# Altium integrated library Xilinx XC1700E.IntLib: 48 symbols
Pins are listed as number, name and electrical type; pins without a type are passive.

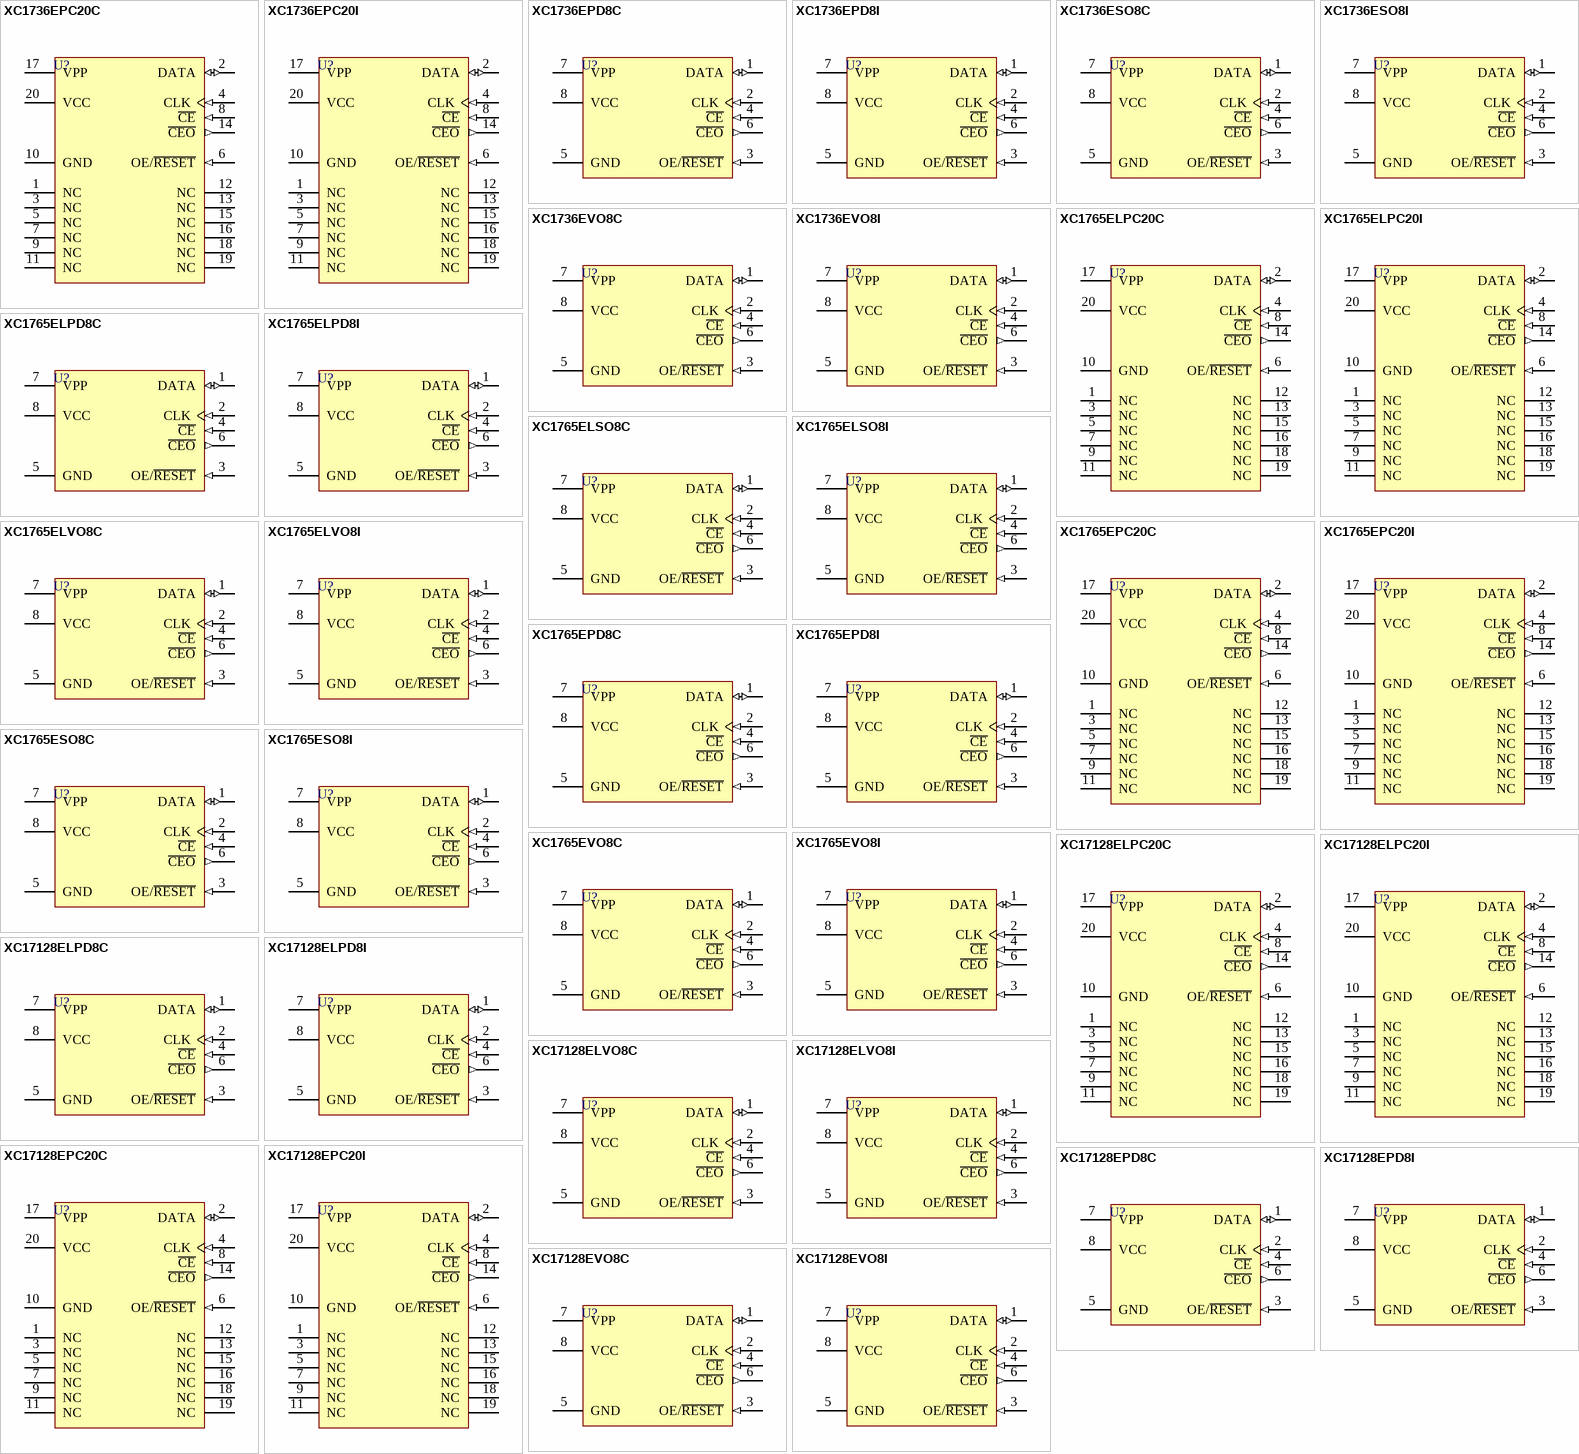
[diagram p0: symbols XC1736EPC20C to XC17128EVO8I]

## XC1736EPC20C
designator U?
XC1700E Series, One-Time Programmable Configuration 5V PROM, 20-Pin PLCC, 36-Kilobit Density, Commercial Grade; PackageDocument: ver1.0, Jun-2000; Published: 17-Dec-2003; DatasheetDocument: ver3.1, Jul-2000; PackageReference: PC20; Publisher: Altium Limited; Code_JEDEC: MS-047
footprint PC20 (20-Pin Plastic Leaded Chip Carrier (PC20))
3D model XC1736E-PC20 (20-Pin Plastic Leaded Chip Carrier (PC20))
pins: 1 NC "No Connection.", 2 DATA (io) "Data Output.", 3 NC "No Connection.", 4 CLK (in) "Clock input for internal address counter.", 5 NC "No Connection.", 6 OE/~{RESET} (in) "Output Enable/Reset.", 7 NC "No Connection.", 8 ~{CE} (in) "Chip Enable Input.", 9 NC "No Connection.", 10 GND (power) "Ground.", 11 NC "No Connection.", 12 NC "No Connection.", 13 NC "No Connection.", 14 ~{CEO} (out) "Chip Enable Output, connects to the CE input of the next PROM in the chain.", 15 NC "No Connection.", 16 NC "No Connection.", 17 VPP (power) "Programming Voltage.  Do not leave Vpp floating!", 18 NC "No Connection.", 19 NC "No Connection.", 20 VCC (power) "Positive Supply."

## XC1736EPC20I
designator U?
XC1700E Series, One-Time Programmable Configuration 5V PROM, 20-Pin PLCC, 36-Kilobit Density, Industrial Grade; PackageDocument: ver1.0, Jun-2000; Published: 17-Dec-2003; DatasheetDocument: ver3.1, Jul-2000; PackageReference: PC20; Publisher: Altium Limited; Code_JEDEC: MS-047
footprint PC20 (20-Pin Plastic Leaded Chip Carrier (PC20))
3D model XC1736E-PC20 (20-Pin Plastic Leaded Chip Carrier (PC20))
pins: 1 NC "No Connection.", 2 DATA (io) "Data Output.", 3 NC "No Connection.", 4 CLK (in) "Clock input for internal address counter.", 5 NC "No Connection.", 6 OE/~{RESET} (in) "Output Enable/Reset.", 7 NC "No Connection.", 8 ~{CE} (in) "Chip Enable Input.", 9 NC "No Connection.", 10 GND (power) "Ground.", 11 NC "No Connection.", 12 NC "No Connection.", 13 NC "No Connection.", 14 ~{CEO} (out) "Chip Enable Output, connects to the CE input of the next PROM in the chain.", 15 NC "No Connection.", 16 NC "No Connection.", 17 VPP (power) "Programming Voltage.  Do not leave Vpp floating!", 18 NC "No Connection.", 19 NC "No Connection.", 20 VCC (power) "Positive Supply."

## XC1736EPD8C
designator U?
XC1700E Series, One-Time Programmable Configuration 5V PROM, 8-Pin PDIP, 36-Kilobit Density, Commercial Grade; PackageDocument: rev1.1, Apr-2001; Published: 17-Dec-2003; DatasheetDocument: ver3.1, Jul-2000; PackageReference: PD8; Publisher: Altium Limited; Code_JEDEC: MS-001-BA
footprint PD8 (8-Pin Plastic DIP (PD8))
pins: 1 DATA (io) "Data Output.", 2 CLK (in) "Clock input for internal address counter.", 3 OE/~{RESET} (in) "Output Enable/Reset.", 4 ~{CE} (in) "Chip Enable Input.", 5 GND (power) "Ground.", 6 ~{CEO} (out) "Chip Enable Output, connects to the CE input of the next PROM in the chain.", 7 VPP (power) "Programming Voltage.  Do not leave Vpp floating!", 8 VCC (power) "Positive Supply."

## XC1736EPD8I
designator U?
XC1700E Series, One-Time Programmable Configuration 5V PROM, 8-Pin PDIP, 36-Kilobit Density, Industrial Grade; PackageDocument: rev1.1, Apr-2001; Published: 17-Dec-2003; DatasheetDocument: ver3.1, Jul-2000; PackageReference: PD8; Publisher: Altium Limited; Code_JEDEC: MS-001-BA
footprint PD8 (8-Pin Plastic DIP (PD8))
pins: 1 DATA (io) "Data Output.", 2 CLK (in) "Clock input for internal address counter.", 3 OE/~{RESET} (in) "Output Enable/Reset.", 4 ~{CE} (in) "Chip Enable Input.", 5 GND (power) "Ground.", 6 ~{CEO} (out) "Chip Enable Output, connects to the CE input of the next PROM in the chain.", 7 VPP (power) "Programming Voltage.  Do not leave Vpp floating!", 8 VCC (power) "Positive Supply."

## XC1736ESO8C
designator U?
XC1700E Series, One-Time Programmable Configuration 5V PROM, 8-Pin SOIC, 36-Kilobit Density, Commercial Grade; PackageDocument: ver1.1, Apr-2001; Published: 17-Dec-2003; DatasheetDocument: ver3.1, Jul-2000; PackageReference: SO8; Publisher: Altium Limited; Code_JEDEC: MS-012
footprint SO8 (8-Lead SOIC (SO8))
pins: 1 DATA (io) "Data Output.", 2 CLK (in) "Clock input for internal address counter.", 3 OE/~{RESET} (in) "Output Enable/Reset.", 4 ~{CE} (in) "Chip Enable Input.", 5 GND (power) "Ground.", 6 ~{CEO} (out) "Chip Enable Output, connects to the CE input of the next PROM in the chain.", 7 VPP (power) "Programming Voltage.  Do not leave Vpp floating!", 8 VCC (power) "Positive Supply."

## XC1736ESO8I
designator U?
XC1700E Series, One-Time Programmable Configuration 5V PROM, 8-Pin SOIC, 36-Kilobit Density, Industrial Grade; PackageDocument: ver1.1, Apr-2001; Published: 17-Dec-2003; DatasheetDocument: ver3.1, Jul-2000; PackageReference: SO8; Publisher: Altium Limited; Code_JEDEC: MS-012
footprint SO8 (8-Lead SOIC (SO8))
pins: 1 DATA (io) "Data Output.", 2 CLK (in) "Clock input for internal address counter.", 3 OE/~{RESET} (in) "Output Enable/Reset.", 4 ~{CE} (in) "Chip Enable Input.", 5 GND (power) "Ground.", 6 ~{CEO} (out) "Chip Enable Output, connects to the CE input of the next PROM in the chain.", 7 VPP (power) "Programming Voltage.  Do not leave Vpp floating!", 8 VCC (power) "Positive Supply."

## XC1736EVO8C
designator U?
XC1700E Series, One-Time Programmable Configuration 5V PROM, 8-Pin TSOP, 36-Kilobit Density, Commercial Grade; PackageDocument: ver1.1, Apr-2001; Published: 17-Dec-2003; DatasheetDocument: ver3.1, Jul-2000; PackageReference: VO8; Publisher: Altium Limited
footprint VO8 (8-Pin Thin Small-Outline Package (VO8))
pins: 1 DATA (io) "Data Output.", 2 CLK (in) "Clock input for internal address counter.", 3 OE/~{RESET} (in) "Output Enable/Reset.", 4 ~{CE} (in) "Chip Enable Input.", 5 GND (power) "Ground.", 6 ~{CEO} (out) "Chip Enable Output, connects to the CE input of the next PROM in the chain.", 7 VPP (power) "Programming Voltage.  Do not leave Vpp floating!", 8 VCC (power) "Positive Supply."

## XC1736EVO8I
designator U?
XC1700E Series, One-Time Programmable Configuration 5V PROM, 8-Pin TSOP, 36-Kilobit Density, Industrial Grade; PackageDocument: ver1.1, Apr-2001; Published: 17-Dec-2003; DatasheetDocument: ver3.1, Jul-2000; PackageReference: VO8; Publisher: Altium Limited
footprint VO8 (8-Pin Thin Small-Outline Package (VO8))
pins: 1 DATA (io) "Data Output.", 2 CLK (in) "Clock input for internal address counter.", 3 OE/~{RESET} (in) "Output Enable/Reset.", 4 ~{CE} (in) "Chip Enable Input.", 5 GND (power) "Ground.", 6 ~{CEO} (out) "Chip Enable Output, connects to the CE input of the next PROM in the chain.", 7 VPP (power) "Programming Voltage.  Do not leave Vpp floating!", 8 VCC (power) "Positive Supply."

## XC1765ELPC20C
designator U?
XC1700EL Series, One-Time Programmable Configuration 3.3V PROM, 20-Pin PLCC, 64-Kilobit Density, Commercial Grade; PackageDocument: ver1.0, Jun-2000; Published: 17-Dec-2003; DatasheetDocument: ver3.1, Jul-2000; PackageReference: PC20; Publisher: Altium Limited; Code_JEDEC: MS-047
footprint PC20 (20-Pin Plastic Leaded Chip Carrier (PC20))
3D model XC1765X-PC20 (20-Pin Plastic Leaded Chip Carrier (PC20))
pins: 1 NC "No Connection.", 2 DATA (io) "Data Output.", 3 NC "No Connection.", 4 CLK (in) "Clock input for internal address counter.", 5 NC "No Connection.", 6 OE/~{RESET} (in) "Output Enable/Reset.", 7 NC "No Connection.", 8 ~{CE} (in) "Chip Enable Input.", 9 NC "No Connection.", 10 GND (power) "Ground.", 11 NC "No Connection.", 12 NC "No Connection.", 13 NC "No Connection.", 14 ~{CEO} (out) "Chip Enable Output, connects to the CE input of the next PROM in the chain.", 15 NC "No Connection.", 16 NC "No Connection.", 17 VPP (power) "Programming Voltage.  Do not leave Vpp floating!", 18 NC "No Connection.", 19 NC "No Connection.", 20 VCC (power) "Positive Supply."

## XC1765ELPC20I
designator U?
XC1700EL Series, One-Time Programmable Configuration 3.3V PROM, 20-Pin PLCC, 64-Kilobit Density, Industrial Grade; PackageDocument: ver1.0, Jun-2000; Published: 17-Dec-2003; DatasheetDocument: ver3.1, Jul-2000; PackageReference: PC20; Publisher: Altium Limited; Code_JEDEC: MS-047
footprint PC20 (20-Pin Plastic Leaded Chip Carrier (PC20))
3D model XC1765X-PC20 (20-Pin Plastic Leaded Chip Carrier (PC20))
pins: 1 NC "No Connection.", 2 DATA (io) "Data Output.", 3 NC "No Connection.", 4 CLK (in) "Clock input for internal address counter.", 5 NC "No Connection.", 6 OE/~{RESET} (in) "Output Enable/Reset.", 7 NC "No Connection.", 8 ~{CE} (in) "Chip Enable Input.", 9 NC "No Connection.", 10 GND (power) "Ground.", 11 NC "No Connection.", 12 NC "No Connection.", 13 NC "No Connection.", 14 ~{CEO} (out) "Chip Enable Output, connects to the CE input of the next PROM in the chain.", 15 NC "No Connection.", 16 NC "No Connection.", 17 VPP (power) "Programming Voltage.  Do not leave Vpp floating!", 18 NC "No Connection.", 19 NC "No Connection.", 20 VCC (power) "Positive Supply."

## XC1765ELPD8C
designator U?
XC1700EL Series, One-Time Programmable Configuration 3.3V PROM, 8-Pin PDIP, 64-Kilobit Density, Commercial Grade; PackageDocument: rev1.1, Apr-2001; Published: 17-Dec-2003; DatasheetDocument: ver3.1, Jul-2000; PackageReference: PD8; Publisher: Altium Limited; Code_JEDEC: MS-001-BA
footprint PD8 (8-Pin Plastic DIP (PD8))
pins: 1 DATA (io) "Data Output.", 2 CLK (in) "Clock input for internal address counter.", 3 OE/~{RESET} (in) "Output Enable/Reset.", 4 ~{CE} (in) "Chip Enable Input.", 5 GND (power) "Ground.", 6 ~{CEO} (out) "Chip Enable Output, connects to the CE input of the next PROM in the chain.", 7 VPP (power) "Programming Voltage.  Do not leave Vpp floating!", 8 VCC (power) "Positive Supply."

## XC1765ELPD8I
designator U?
XC1700EL Series, One-Time Programmable Configuration 3.3V PROM, 8-Pin PDIP, 64-Kilobit Density, Industrial Grade; PackageDocument: rev1.1, Apr-2001; Published: 17-Dec-2003; DatasheetDocument: ver3.1, Jul-2000; PackageReference: PD8; Publisher: Altium Limited; Code_JEDEC: MS-001-BA
footprint PD8 (8-Pin Plastic DIP (PD8))
pins: 1 DATA (io) "Data Output.", 2 CLK (in) "Clock input for internal address counter.", 3 OE/~{RESET} (in) "Output Enable/Reset.", 4 ~{CE} (in) "Chip Enable Input.", 5 GND (power) "Ground.", 6 ~{CEO} (out) "Chip Enable Output, connects to the CE input of the next PROM in the chain.", 7 VPP (power) "Programming Voltage.  Do not leave Vpp floating!", 8 VCC (power) "Positive Supply."

## XC1765ELSO8C
designator U?
XC1700EL Series, One-Time Programmable Configuration 3.3V PROM, 8-Pin SOIC, 64-Kilobit Density, Commercial Grade; PackageDocument: ver1.1, Apr-2001; Published: 17-Dec-2003; DatasheetDocument: ver3.1, Jul-2000; PackageReference: SO8; Publisher: Altium Limited; Code_JEDEC: MS-012
footprint SO8 (8-Lead SOIC (SO8))
pins: 1 DATA (io) "Data Output.", 2 CLK (in) "Clock input for internal address counter.", 3 OE/~{RESET} (in) "Output Enable/Reset.", 4 ~{CE} (in) "Chip Enable Input.", 5 GND (power) "Ground.", 6 ~{CEO} (out) "Chip Enable Output, connects to the CE input of the next PROM in the chain.", 7 VPP (power) "Programming Voltage.  Do not leave Vpp floating!", 8 VCC (power) "Positive Supply."

## XC1765ELSO8I
designator U?
XC1700EL Series, One-Time Programmable Configuration 3.3V PROM, 8-Pin SOIC, 64-Kilobit Density, Industrial Grade; PackageDocument: ver1.1, Apr-2001; Published: 17-Dec-2003; DatasheetDocument: ver3.1, Jul-2000; PackageReference: SO8; Publisher: Altium Limited; Code_JEDEC: MS-012
footprint SO8 (8-Lead SOIC (SO8))
pins: 1 DATA (io) "Data Output.", 2 CLK (in) "Clock input for internal address counter.", 3 OE/~{RESET} (in) "Output Enable/Reset.", 4 ~{CE} (in) "Chip Enable Input.", 5 GND (power) "Ground.", 6 ~{CEO} (out) "Chip Enable Output, connects to the CE input of the next PROM in the chain.", 7 VPP (power) "Programming Voltage.  Do not leave Vpp floating!", 8 VCC (power) "Positive Supply."

## XC1765ELVO8C
designator U?
XC1700EL Series, One-Time Programmable Configuration 3.3V PROM, 8-Pin TSOP, 64-Kilobit Density, Commercial Grade; PackageDocument: ver1.1, Apr-2001; Published: 17-Dec-2003; DatasheetDocument: ver3.1, Jul-2000; PackageReference: VO8; Publisher: Altium Limited
footprint VO8 (8-Pin Thin Small-Outline Package (VO8))
pins: 1 DATA (io) "Data Output.", 2 CLK (in) "Clock input for internal address counter.", 3 OE/~{RESET} (in) "Output Enable/Reset.", 4 ~{CE} (in) "Chip Enable Input.", 5 GND (power) "Ground.", 6 ~{CEO} (out) "Chip Enable Output, connects to the CE input of the next PROM in the chain.", 7 VPP (power) "Programming Voltage.  Do not leave Vpp floating!", 8 VCC (power) "Positive Supply."

## XC1765ELVO8I
designator U?
XC1700EL Series, One-Time Programmable Configuration 3.3V PROM, 8-Pin TSOP, 64-Kilobit Density, Industrial Grade; PackageDocument: ver1.1, Apr-2001; Published: 17-Dec-2003; DatasheetDocument: ver3.1, Jul-2000; PackageReference: VO8; Publisher: Altium Limited
footprint VO8 (8-Pin Thin Small-Outline Package (VO8))
pins: 1 DATA (io) "Data Output.", 2 CLK (in) "Clock input for internal address counter.", 3 OE/~{RESET} (in) "Output Enable/Reset.", 4 ~{CE} (in) "Chip Enable Input.", 5 GND (power) "Ground.", 6 ~{CEO} (out) "Chip Enable Output, connects to the CE input of the next PROM in the chain.", 7 VPP (power) "Programming Voltage.  Do not leave Vpp floating!", 8 VCC (power) "Positive Supply."

## XC1765EPC20C
designator U?
XC1700E Series, One-Time Programmable Configuration 5V PROM, 20-Pin PLCC, 64-Kilobit Density, Commercial Grade; PackageDocument: ver1.0, Jun-2000; Published: 17-Dec-2003; DatasheetDocument: ver3.1, Jul-2000; PackageReference: PC20; Publisher: Altium Limited; Code_JEDEC: MS-047
footprint PC20 (20-Pin Plastic Leaded Chip Carrier (PC20))
3D model XC1765E-PC20 (20-Pin Plastic Leaded Chip Carrier (PC20))
pins: 1 NC "No Connection.", 2 DATA (io) "Data Output.", 3 NC "No Connection.", 4 CLK (in) "Clock input for internal address counter.", 5 NC "No Connection.", 6 OE/~{RESET} (in) "Output Enable/Reset.", 7 NC "No Connection.", 8 ~{CE} (in) "Chip Enable Input.", 9 NC "No Connection.", 10 GND (power) "Ground.", 11 NC "No Connection.", 12 NC "No Connection.", 13 NC "No Connection.", 14 ~{CEO} (out) "Chip Enable Output, connects to the CE input of the next PROM in the chain.", 15 NC "No Connection.", 16 NC "No Connection.", 17 VPP (power) "Programming Voltage.  Do not leave Vpp floating!", 18 NC "No Connection.", 19 NC "No Connection.", 20 VCC (power) "Positive Supply."

## XC1765EPC20I
designator U?
XC1700E Series, One-Time Programmable Configuration 5V PROM, 20-Pin PLCC, 64-Kilobit Density, Industrial Grade; PackageDocument: ver1.0, Jun-2000; Published: 17-Dec-2003; DatasheetDocument: ver3.1, Jul-2000; PackageReference: PC20; Publisher: Altium Limited; Code_JEDEC: MS-047
footprint PC20 (20-Pin Plastic Leaded Chip Carrier (PC20))
3D model XC1765E-PC20 (20-Pin Plastic Leaded Chip Carrier (PC20))
pins: 1 NC "No Connection.", 2 DATA (io) "Data Output.", 3 NC "No Connection.", 4 CLK (in) "Clock input for internal address counter.", 5 NC "No Connection.", 6 OE/~{RESET} (in) "Output Enable/Reset.", 7 NC "No Connection.", 8 ~{CE} (in) "Chip Enable Input.", 9 NC "No Connection.", 10 GND (power) "Ground.", 11 NC "No Connection.", 12 NC "No Connection.", 13 NC "No Connection.", 14 ~{CEO} (out) "Chip Enable Output, connects to the CE input of the next PROM in the chain.", 15 NC "No Connection.", 16 NC "No Connection.", 17 VPP (power) "Programming Voltage.  Do not leave Vpp floating!", 18 NC "No Connection.", 19 NC "No Connection.", 20 VCC (power) "Positive Supply."

## XC1765EPD8C
designator U?
XC1700E Series, One-Time Programmable Configuration 5V PROM, 8-Pin PDIP, 64-Kilobit Density, Commercial Grade; PackageDocument: rev1.1, Apr-2001; Published: 17-Dec-2003; DatasheetDocument: ver3.1, Jul-2000; PackageReference: PD8; Publisher: Altium Limited; Code_JEDEC: MS-001-BA
footprint PD8 (8-Pin Plastic DIP (PD8))
pins: 1 DATA (io) "Data Output.", 2 CLK (in) "Clock input for internal address counter.", 3 OE/~{RESET} (in) "Output Enable/Reset.", 4 ~{CE} (in) "Chip Enable Input.", 5 GND (power) "Ground.", 6 ~{CEO} (out) "Chip Enable Output, connects to the CE input of the next PROM in the chain.", 7 VPP (power) "Programming Voltage.  Do not leave Vpp floating!", 8 VCC (power) "Positive Supply."

## XC1765EPD8I
designator U?
XC1700E Series, One-Time Programmable Configuration 5V PROM, 8-Pin PDIP, 64-Kilobit Density, Industrial Grade; PackageDocument: rev1.1, Apr-2001; Published: 17-Dec-2003; DatasheetDocument: ver3.1, Jul-2000; PackageReference: PD8; Publisher: Altium Limited; Code_JEDEC: MS-001-BA
footprint PD8 (8-Pin Plastic DIP (PD8))
pins: 1 DATA (io) "Data Output.", 2 CLK (in) "Clock input for internal address counter.", 3 OE/~{RESET} (in) "Output Enable/Reset.", 4 ~{CE} (in) "Chip Enable Input.", 5 GND (power) "Ground.", 6 ~{CEO} (out) "Chip Enable Output, connects to the CE input of the next PROM in the chain.", 7 VPP (power) "Programming Voltage.  Do not leave Vpp floating!", 8 VCC (power) "Positive Supply."

## XC1765ESO8C
designator U?
XC1700E Series, One-Time Programmable Configuration 5V PROM, 8-Pin SOIC, 64-Kilobit Density, Commercial Grade; PackageDocument: ver1.1, Apr-2001; Published: 17-Dec-2003; DatasheetDocument: ver3.1, Jul-2000; PackageReference: SO8; Publisher: Altium Limited; Code_JEDEC: MS-012
footprint SO8 (8-Lead SOIC (SO8))
pins: 1 DATA (io) "Data Output.", 2 CLK (in) "Clock input for internal address counter.", 3 OE/~{RESET} (in) "Output Enable/Reset.", 4 ~{CE} (in) "Chip Enable Input.", 5 GND (power) "Ground.", 6 ~{CEO} (out) "Chip Enable Output, connects to the CE input of the next PROM in the chain.", 7 VPP (power) "Programming Voltage.  Do not leave Vpp floating!", 8 VCC (power) "Positive Supply."

## XC1765ESO8I
designator U?
XC1700E Series, One-Time Programmable Configuration 5V PROM, 8-Pin SOIC, 64-Kilobit Density, Industrial Grade; PackageDocument: ver1.1, Apr-2001; Published: 17-Dec-2003; DatasheetDocument: ver3.1, Jul-2000; PackageReference: SO8; Publisher: Altium Limited; Code_JEDEC: MS-012
footprint SO8 (8-Lead SOIC (SO8))
pins: 1 DATA (io) "Data Output.", 2 CLK (in) "Clock input for internal address counter.", 3 OE/~{RESET} (in) "Output Enable/Reset.", 4 ~{CE} (in) "Chip Enable Input.", 5 GND (power) "Ground.", 6 ~{CEO} (out) "Chip Enable Output, connects to the CE input of the next PROM in the chain.", 7 VPP (power) "Programming Voltage.  Do not leave Vpp floating!", 8 VCC (power) "Positive Supply."

## XC1765EVO8C
designator U?
XC1700E Series, One-Time Programmable Configuration 5V PROM, 8-Pin TSOP, 64-Kilobit Density, Commercial Grade; PackageDocument: ver1.1, Apr-2001; Published: 17-Dec-2003; DatasheetDocument: ver3.1, Jul-2000; PackageReference: VO8; Publisher: Altium Limited
footprint VO8 (8-Pin Thin Small-Outline Package (VO8))
pins: 1 DATA (io) "Data Output.", 2 CLK (in) "Clock input for internal address counter.", 3 OE/~{RESET} (in) "Output Enable/Reset.", 4 ~{CE} (in) "Chip Enable Input.", 5 GND (power) "Ground.", 6 ~{CEO} (out) "Chip Enable Output, connects to the CE input of the next PROM in the chain.", 7 VPP (power) "Programming Voltage.  Do not leave Vpp floating!", 8 VCC (power) "Positive Supply."

## XC1765EVO8I
designator U?
XC1700E Series, One-Time Programmable Configuration 5V PROM, 8-Pin TSOP, 64-Kilobit Density, Industrial Grade; PackageDocument: ver1.1, Apr-2001; Published: 17-Dec-2003; DatasheetDocument: ver3.1, Jul-2000; PackageReference: VO8; Publisher: Altium Limited
footprint VO8 (8-Pin Thin Small-Outline Package (VO8))
pins: 1 DATA (io) "Data Output.", 2 CLK (in) "Clock input for internal address counter.", 3 OE/~{RESET} (in) "Output Enable/Reset.", 4 ~{CE} (in) "Chip Enable Input.", 5 GND (power) "Ground.", 6 ~{CEO} (out) "Chip Enable Output, connects to the CE input of the next PROM in the chain.", 7 VPP (power) "Programming Voltage.  Do not leave Vpp floating!", 8 VCC (power) "Positive Supply."

## XC17128ELPC20C
designator U?
XC1700EL Series, One-Time Programmable Configuration 3.3V PROM, 20-Pin PLCC, 128-Kilobit Density, Commercial Grade; PackageDocument: ver1.0, Jun-2000; Published: 17-Dec-2003; DatasheetDocument: ver3.1, Jul-2000; PackageReference: PC20; Publisher: Altium Limited; Code_JEDEC: MS-047
footprint PC20 (20-Pin Plastic Leaded Chip Carrier (PC20))
3D model XC17128X-PC20 (20-Pin Plastic Leaded Chip Carrier (PC20))
pins: 1 NC "No Connection.", 2 DATA (io) "Data Output.", 3 NC "No Connection.", 4 CLK (in) "Clock input for internal address counter.", 5 NC "No Connection.", 6 OE/~{RESET} (in) "Output Enable/Reset.", 7 NC "No Connection.", 8 ~{CE} (in) "Chip Enable Input.", 9 NC "No Connection.", 10 GND (power) "Ground.", 11 NC "No Connection.", 12 NC "No Connection.", 13 NC "No Connection.", 14 ~{CEO} (out) "Chip Enable Output, connects to the CE input of the next PROM in the chain.", 15 NC "No Connection.", 16 NC "No Connection.", 17 VPP (power) "Programming Voltage.  Do not leave Vpp floating!", 18 NC "No Connection.", 19 NC "No Connection.", 20 VCC (power) "Positive Supply."

## XC17128ELPC20I
designator U?
XC1700EL Series, One-Time Programmable Configuration 3.3V PROM, 20-Pin PLCC, 128-Kilobit Density, Industrial Grade; PackageDocument: ver1.0, Jun-2000; Published: 17-Dec-2003; DatasheetDocument: ver3.1, Jul-2000; PackageReference: PC20; Publisher: Altium Limited; Code_JEDEC: MS-047
footprint PC20 (20-Pin Plastic Leaded Chip Carrier (PC20))
3D model XC17128X-PC20 (20-Pin Plastic Leaded Chip Carrier (PC20))
pins: 1 NC "No Connection.", 2 DATA (io) "Data Output.", 3 NC "No Connection.", 4 CLK (in) "Clock input for internal address counter.", 5 NC "No Connection.", 6 OE/~{RESET} (in) "Output Enable/Reset.", 7 NC "No Connection.", 8 ~{CE} (in) "Chip Enable Input.", 9 NC "No Connection.", 10 GND (power) "Ground.", 11 NC "No Connection.", 12 NC "No Connection.", 13 NC "No Connection.", 14 ~{CEO} (out) "Chip Enable Output, connects to the CE input of the next PROM in the chain.", 15 NC "No Connection.", 16 NC "No Connection.", 17 VPP (power) "Programming Voltage.  Do not leave Vpp floating!", 18 NC "No Connection.", 19 NC "No Connection.", 20 VCC (power) "Positive Supply."

## XC17128ELPD8C
designator U?
XC1700EL Series, One-Time Programmable Configuration 3.3V PROM, 8-Pin PDIP, 128-Kilobit Density, Commercial Grade; PackageDocument: rev1.1, Apr-2001; Published: 17-Dec-2003; DatasheetDocument: ver3.1, Jul-2000; PackageReference: PD8; Publisher: Altium Limited; Code_JEDEC: MS-001-BA
footprint PD8 (8-Pin Plastic DIP (PD8))
pins: 1 DATA (io) "Data Output.", 2 CLK (in) "Clock input for internal address counter.", 3 OE/~{RESET} (in) "Output Enable/Reset.", 4 ~{CE} (in) "Chip Enable Input.", 5 GND (power) "Ground.", 6 ~{CEO} (out) "Chip Enable Output, connects to the CE input of the next PROM in the chain.", 7 VPP (power) "Programming Voltage.  Do not leave Vpp floating!", 8 VCC (power) "Positive Supply."

## XC17128ELPD8I
designator U?
XC1700EL Series, One-Time Programmable Configuration 3.3V PROM, 8-Pin PDIP, 128-Kilobit Density, Industrial Grade; PackageDocument: rev1.1, Apr-2001; Published: 17-Dec-2003; DatasheetDocument: ver3.1, Jul-2000; PackageReference: PD8; Publisher: Altium Limited; Code_JEDEC: MS-001-BA
footprint PD8 (8-Pin Plastic DIP (PD8))
pins: 1 DATA (io) "Data Output.", 2 CLK (in) "Clock input for internal address counter.", 3 OE/~{RESET} (in) "Output Enable/Reset.", 4 ~{CE} (in) "Chip Enable Input.", 5 GND (power) "Ground.", 6 ~{CEO} (out) "Chip Enable Output, connects to the CE input of the next PROM in the chain.", 7 VPP (power) "Programming Voltage.  Do not leave Vpp floating!", 8 VCC (power) "Positive Supply."

## XC17128ELVO8C
designator U?
XC1700EL Series, One-Time Programmable Configuration 3.3V PROM, 8-Pin TSOP, 128-Kilobit Density, Commercial Grade; PackageDocument: ver1.1, Apr-2001; Published: 17-Dec-2003; DatasheetDocument: ver3.1, Jul-2000; PackageReference: VO8; Publisher: Altium Limited
footprint VO8 (8-Pin Thin Small-Outline Package (VO8))
pins: 1 DATA (io) "Data Output.", 2 CLK (in) "Clock input for internal address counter.", 3 OE/~{RESET} (in) "Output Enable/Reset.", 4 ~{CE} (in) "Chip Enable Input.", 5 GND (power) "Ground.", 6 ~{CEO} (out) "Chip Enable Output, connects to the CE input of the next PROM in the chain.", 7 VPP (power) "Programming Voltage.  Do not leave Vpp floating!", 8 VCC (power) "Positive Supply."

## XC17128ELVO8I
designator U?
XC1700EL Series, One-Time Programmable Configuration 3.3V PROM, 8-Pin TSOP, 128-Kilobit Density, Industrial Grade; PackageDocument: ver1.1, Apr-2001; Published: 17-Dec-2003; DatasheetDocument: ver3.1, Jul-2000; PackageReference: VO8; Publisher: Altium Limited
footprint VO8 (8-Pin Thin Small-Outline Package (VO8))
pins: 1 DATA (io) "Data Output.", 2 CLK (in) "Clock input for internal address counter.", 3 OE/~{RESET} (in) "Output Enable/Reset.", 4 ~{CE} (in) "Chip Enable Input.", 5 GND (power) "Ground.", 6 ~{CEO} (out) "Chip Enable Output, connects to the CE input of the next PROM in the chain.", 7 VPP (power) "Programming Voltage.  Do not leave Vpp floating!", 8 VCC (power) "Positive Supply."

## XC17128EPC20C
designator U?
XC1700E Series, One-Time Programmable Configuration 5V PROM, 20-Pin PLCC, 128-Kilobit Density, Commercial Grade; PackageDocument: ver1.0, Jun-2000; Published: 17-Dec-2003; DatasheetDocument: ver3.1, Jul-2000; PackageReference: PC20; Publisher: Altium Limited; Code_JEDEC: MS-047
footprint PC20 (20-Pin Plastic Leaded Chip Carrier (PC20))
3D model XC17128E-PC20 (20-Pin Plastic Leaded Chip Carrier (PC20))
pins: 1 NC "No Connection.", 2 DATA (io) "Data Output.", 3 NC "No Connection.", 4 CLK (in) "Clock input for internal address counter.", 5 NC "No Connection.", 6 OE/~{RESET} (in) "Output Enable/Reset.", 7 NC "No Connection.", 8 ~{CE} (in) "Chip Enable Input.", 9 NC "No Connection.", 10 GND (power) "Ground.", 11 NC "No Connection.", 12 NC "No Connection.", 13 NC "No Connection.", 14 ~{CEO} (out) "Chip Enable Output, connects to the CE input of the next PROM in the chain.", 15 NC "No Connection.", 16 NC "No Connection.", 17 VPP (power) "Programming Voltage.  Do not leave Vpp floating!", 18 NC "No Connection.", 19 NC "No Connection.", 20 VCC (power) "Positive Supply."

## XC17128EPC20I
designator U?
XC1700E Series, One-Time Programmable Configuration 5V PROM, 20-Pin PLCC, 128-Kilobit Density, Industrial Grade; PackageDocument: ver1.0, Jun-2000; Published: 17-Dec-2003; DatasheetDocument: ver3.1, Jul-2000; PackageReference: PC20; Publisher: Altium Limited; Code_JEDEC: MS-047
footprint PC20 (20-Pin Plastic Leaded Chip Carrier (PC20))
3D model XC17128E-PC20 (20-Pin Plastic Leaded Chip Carrier (PC20))
pins: 1 NC "No Connection.", 2 DATA (io) "Data Output.", 3 NC "No Connection.", 4 CLK (in) "Clock input for internal address counter.", 5 NC "No Connection.", 6 OE/~{RESET} (in) "Output Enable/Reset.", 7 NC "No Connection.", 8 ~{CE} (in) "Chip Enable Input.", 9 NC "No Connection.", 10 GND (power) "Ground.", 11 NC "No Connection.", 12 NC "No Connection.", 13 NC "No Connection.", 14 ~{CEO} (out) "Chip Enable Output, connects to the CE input of the next PROM in the chain.", 15 NC "No Connection.", 16 NC "No Connection.", 17 VPP (power) "Programming Voltage.  Do not leave Vpp floating!", 18 NC "No Connection.", 19 NC "No Connection.", 20 VCC (power) "Positive Supply."

## XC17128EPD8C
designator U?
XC1700E Series, One-Time Programmable Configuration 5V PROM, 8-Pin PDIP, 128-Kilobit Density, Commercial Grade; PackageDocument: rev1.1, Apr-2001; Published: 17-Dec-2003; DatasheetDocument: ver3.1, Jul-2000; PackageReference: PD8; Publisher: Altium Limited; Code_JEDEC: MS-001-BA
footprint PD8 (8-Pin Plastic DIP (PD8))
pins: 1 DATA (io) "Data Output.", 2 CLK (in) "Clock input for internal address counter.", 3 OE/~{RESET} (in) "Output Enable/Reset.", 4 ~{CE} (in) "Chip Enable Input.", 5 GND (power) "Ground.", 6 ~{CEO} (out) "Chip Enable Output, connects to the CE input of the next PROM in the chain.", 7 VPP (power) "Programming Voltage.  Do not leave Vpp floating!", 8 VCC (power) "Positive Supply."

## XC17128EPD8I
designator U?
XC1700E Series, One-Time Programmable Configuration 5V PROM, 8-Pin PDIP, 128-Kilobit Density, Industrial Grade; PackageDocument: rev1.1, Apr-2001; Published: 17-Dec-2003; DatasheetDocument: ver3.1, Jul-2000; PackageReference: PD8; Publisher: Altium Limited; Code_JEDEC: MS-001-BA
footprint PD8 (8-Pin Plastic DIP (PD8))
pins: 1 DATA (io) "Data Output.", 2 CLK (in) "Clock input for internal address counter.", 3 OE/~{RESET} (in) "Output Enable/Reset.", 4 ~{CE} (in) "Chip Enable Input.", 5 GND (power) "Ground.", 6 ~{CEO} (out) "Chip Enable Output, connects to the CE input of the next PROM in the chain.", 7 VPP (power) "Programming Voltage.  Do not leave Vpp floating!", 8 VCC (power) "Positive Supply."

## XC17128EVO8C
designator U?
XC1700E Series, One-Time Programmable Configuration 5V PROM, 8-Pin TSOP, 128-Kilobit Density, Commercial Grade; PackageDocument: ver1.1, Apr-2001; Published: 17-Dec-2003; DatasheetDocument: ver3.1, Jul-2000; PackageReference: VO8; Publisher: Altium Limited
footprint VO8 (8-Pin Thin Small-Outline Package (VO8))
pins: 1 DATA (io) "Data Output.", 2 CLK (in) "Clock input for internal address counter.", 3 OE/~{RESET} (in) "Output Enable/Reset.", 4 ~{CE} (in) "Chip Enable Input.", 5 GND (power) "Ground.", 6 ~{CEO} (out) "Chip Enable Output, connects to the CE input of the next PROM in the chain.", 7 VPP (power) "Programming Voltage.  Do not leave Vpp floating!", 8 VCC (power) "Positive Supply."

## XC17128EVO8I
designator U?
XC1700E Series, One-Time Programmable Configuration 5V PROM, 8-Pin TSOP, 128-Kilobit Density, Industrial Grade; PackageDocument: ver1.1, Apr-2001; Published: 17-Dec-2003; DatasheetDocument: ver3.1, Jul-2000; PackageReference: VO8; Publisher: Altium Limited
footprint VO8 (8-Pin Thin Small-Outline Package (VO8))
pins: 1 DATA (io) "Data Output.", 2 CLK (in) "Clock input for internal address counter.", 3 OE/~{RESET} (in) "Output Enable/Reset.", 4 ~{CE} (in) "Chip Enable Input.", 5 GND (power) "Ground.", 6 ~{CEO} (out) "Chip Enable Output, connects to the CE input of the next PROM in the chain.", 7 VPP (power) "Programming Voltage.  Do not leave Vpp floating!", 8 VCC (power) "Positive Supply."

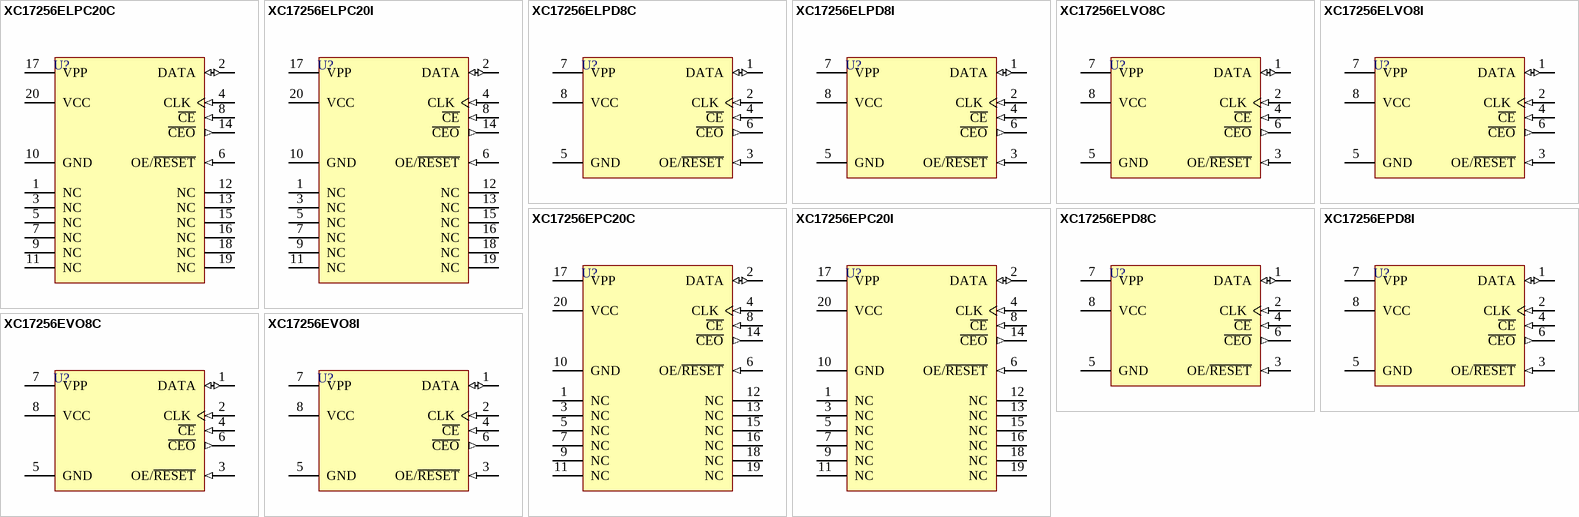
[diagram p1: symbols XC17256ELPC20C to XC17256EVO8I]

## XC17256ELPC20C
designator U?
XC1700EL Series, One-Time Programmable Configuration 3.3V PROM, 20-Pin PLCC, 256-Kilobit Density, Commercial Grade; PackageDocument: ver1.0, Jun-2000; Published: 17-Dec-2003; DatasheetDocument: ver3.1, Jul-2000; PackageReference: PC20; Publisher: Altium Limited; Code_JEDEC: MS-047
footprint PC20 (20-Pin Plastic Leaded Chip Carrier (PC20))
3D model XC17256X-PC20 (20-Pin Plastic Leaded Chip Carrier (PC20))
pins: 1 NC "No Connection.", 2 DATA (io) "Data Output.", 3 NC "No Connection.", 4 CLK (in) "Clock input for internal address counter.", 5 NC "No Connection.", 6 OE/~{RESET} (in) "Output Enable/Reset.", 7 NC "No Connection.", 8 ~{CE} (in) "Chip Enable Input.", 9 NC "No Connection.", 10 GND (power) "Ground.", 11 NC "No Connection.", 12 NC "No Connection.", 13 NC "No Connection.", 14 ~{CEO} (out) "Chip Enable Output, connects to the CE input of the next PROM in the chain.", 15 NC "No Connection.", 16 NC "No Connection.", 17 VPP (power) "Programming Voltage.  Do not leave Vpp floating!", 18 NC "No Connection.", 19 NC "No Connection.", 20 VCC (power) "Positive Supply."

## XC17256ELPC20I
designator U?
XC1700EL Series, One-Time Programmable Configuration 3.3V PROM, 20-Pin PLCC, 256-Kilobit Density, Industrial Grade; PackageDocument: ver1.0, Jun-2000; Published: 17-Dec-2003; DatasheetDocument: ver3.1, Jul-2000; PackageReference: PC20; Publisher: Altium Limited; Code_JEDEC: MS-047
footprint PC20 (20-Pin Plastic Leaded Chip Carrier (PC20))
3D model XC17256X-PC20 (20-Pin Plastic Leaded Chip Carrier (PC20))
pins: 1 NC "No Connection.", 2 DATA (io) "Data Output.", 3 NC "No Connection.", 4 CLK (in) "Clock input for internal address counter.", 5 NC "No Connection.", 6 OE/~{RESET} (in) "Output Enable/Reset.", 7 NC "No Connection.", 8 ~{CE} (in) "Chip Enable Input.", 9 NC "No Connection.", 10 GND (power) "Ground.", 11 NC "No Connection.", 12 NC "No Connection.", 13 NC "No Connection.", 14 ~{CEO} (out) "Chip Enable Output, connects to the CE input of the next PROM in the chain.", 15 NC "No Connection.", 16 NC "No Connection.", 17 VPP (power) "Programming Voltage.  Do not leave Vpp floating!", 18 NC "No Connection.", 19 NC "No Connection.", 20 VCC (power) "Positive Supply."

## XC17256ELPD8C
designator U?
XC1700EL Series, One-Time Programmable Configuration 3.3V PROM, 8-Pin PDIP, 256-Kilobit Density, Commercial Grade; PackageDocument: rev1.1, Apr-2001; Published: 17-Dec-2003; DatasheetDocument: ver3.1, Jul-2000; PackageReference: PD8; Publisher: Altium Limited; Code_JEDEC: MS-001-BA
footprint PD8 (8-Pin Plastic DIP (PD8))
pins: 1 DATA (io) "Data Output.", 2 CLK (in) "Clock input for internal address counter.", 3 OE/~{RESET} (in) "Output Enable/Reset.", 4 ~{CE} (in) "Chip Enable Input.", 5 GND (power) "Ground.", 6 ~{CEO} (out) "Chip Enable Output, connects to the CE input of the next PROM in the chain.", 7 VPP (power) "Programming Voltage.  Do not leave Vpp floating!", 8 VCC (power) "Positive Supply."

## XC17256ELPD8I
designator U?
XC1700EL Series, One-Time Programmable Configuration 3.3V PROM, 8-Pin PDIP, 256-Kilobit Density, Industrial Grade; PackageDocument: rev1.1, Apr-2001; Published: 17-Dec-2003; DatasheetDocument: ver3.1, Jul-2000; PackageReference: PD8; Publisher: Altium Limited; Code_JEDEC: MS-001-BA
footprint PD8 (8-Pin Plastic DIP (PD8))
pins: 1 DATA (io) "Data Output.", 2 CLK (in) "Clock input for internal address counter.", 3 OE/~{RESET} (in) "Output Enable/Reset.", 4 ~{CE} (in) "Chip Enable Input.", 5 GND (power) "Ground.", 6 ~{CEO} (out) "Chip Enable Output, connects to the CE input of the next PROM in the chain.", 7 VPP (power) "Programming Voltage.  Do not leave Vpp floating!", 8 VCC (power) "Positive Supply."

## XC17256ELVO8C
designator U?
XC1700EL Series, One-Time Programmable Configuration 3.3V PROM, 8-Pin TSOP, 256-Kilobit Density, Commercial Grade; PackageDocument: ver1.1, Apr-2001; Published: 17-Dec-2003; DatasheetDocument: ver3.1, Jul-2000; PackageReference: VO8; Publisher: Altium Limited
footprint VO8 (8-Pin Thin Small-Outline Package (VO8))
pins: 1 DATA (io) "Data Output.", 2 CLK (in) "Clock input for internal address counter.", 3 OE/~{RESET} (in) "Output Enable/Reset.", 4 ~{CE} (in) "Chip Enable Input.", 5 GND (power) "Ground.", 6 ~{CEO} (out) "Chip Enable Output, connects to the CE input of the next PROM in the chain.", 7 VPP (power) "Programming Voltage.  Do not leave Vpp floating!", 8 VCC (power) "Positive Supply."

## XC17256ELVO8I
designator U?
XC1700EL Series, One-Time Programmable Configuration 3.3V PROM, 8-Pin TSOP, 256-Kilobit Density, Industrial Grade; PackageDocument: ver1.1, Apr-2001; Published: 17-Dec-2003; DatasheetDocument: ver3.1, Jul-2000; PackageReference: VO8; Publisher: Altium Limited
footprint VO8 (8-Pin Thin Small-Outline Package (VO8))
pins: 1 DATA (io) "Data Output.", 2 CLK (in) "Clock input for internal address counter.", 3 OE/~{RESET} (in) "Output Enable/Reset.", 4 ~{CE} (in) "Chip Enable Input.", 5 GND (power) "Ground.", 6 ~{CEO} (out) "Chip Enable Output, connects to the CE input of the next PROM in the chain.", 7 VPP (power) "Programming Voltage.  Do not leave Vpp floating!", 8 VCC (power) "Positive Supply."

## XC17256EPC20C
designator U?
XC1700E Series, One-Time Programmable Configuration 5V PROM, 28-Pin PLCC, 256-Kilobit Density, Commercial Grade; PackageDocument: ver1.0, Jun-2000; Published: 17-Dec-2003; DatasheetDocument: ver3.1, Jul-2000; PackageReference: PC20; Publisher: Altium Limited; Code_JEDEC: MS-047
footprint PC20 (20-Pin Plastic Leaded Chip Carrier (PC20))
3D model XC17256E-PC20 (20-Pin Plastic Leaded Chip Carrier (PC20))
pins: 1 NC "No Connection.", 2 DATA (io) "Data Output.", 3 NC "No Connection.", 4 CLK (in) "Clock input for internal address counter.", 5 NC "No Connection.", 6 OE/~{RESET} (in) "Output Enable/Reset.", 7 NC "No Connection.", 8 ~{CE} (in) "Chip Enable Input.", 9 NC "No Connection.", 10 GND (power) "Ground.", 11 NC "No Connection.", 12 NC "No Connection.", 13 NC "No Connection.", 14 ~{CEO} (out) "Chip Enable Output, connects to the CE input of the next PROM in the chain.", 15 NC "No Connection.", 16 NC "No Connection.", 17 VPP (power) "Programming Voltage.  Do not leave Vpp floating!", 18 NC "No Connection.", 19 NC "No Connection.", 20 VCC (power) "Positive Supply."

## XC17256EPC20I
designator U?
XC1700E Series, One-Time Programmable Configuration 5V PROM, 20-Pin PLCC, 256-Kilobit Density, Industrial Grade; PackageDocument: ver1.0, Jun-2000; Published: 17-Dec-2003; DatasheetDocument: ver3.1, Jul-2000; PackageReference: PC20; Publisher: Altium Limited; Code_JEDEC: MS-047
footprint PC20 (20-Pin Plastic Leaded Chip Carrier (PC20))
3D model XC17256E-PC20 (20-Pin Plastic Leaded Chip Carrier (PC20))
pins: 1 NC "No Connection.", 2 DATA (io) "Data Output.", 3 NC "No Connection.", 4 CLK (in) "Clock input for internal address counter.", 5 NC "No Connection.", 6 OE/~{RESET} (in) "Output Enable/Reset.", 7 NC "No Connection.", 8 ~{CE} (in) "Chip Enable Input.", 9 NC "No Connection.", 10 GND (power) "Ground.", 11 NC "No Connection.", 12 NC "No Connection.", 13 NC "No Connection.", 14 ~{CEO} (out) "Chip Enable Output, connects to the CE input of the next PROM in the chain.", 15 NC "No Connection.", 16 NC "No Connection.", 17 VPP (power) "Programming Voltage.  Do not leave Vpp floating!", 18 NC "No Connection.", 19 NC "No Connection.", 20 VCC (power) "Positive Supply."

## XC17256EPD8C
designator U?
XC1700E Series, One-Time Programmable Configuration 5V PROM, 8-Pin PDIP, 256-Kilobit Density, Commercial Grade; PackageDocument: rev1.1, Apr-2001; Published: 17-Dec-2003; DatasheetDocument: ver3.1, Jul-2000; PackageReference: PD8; Publisher: Altium Limited; Code_JEDEC: MS-001-BA
footprint PD8 (8-Pin Plastic DIP (PD8))
pins: 1 DATA (io) "Data Output.", 2 CLK (in) "Clock input for internal address counter.", 3 OE/~{RESET} (in) "Output Enable/Reset.", 4 ~{CE} (in) "Chip Enable Input.", 5 GND (power) "Ground.", 6 ~{CEO} (out) "Chip Enable Output, connects to the CE input of the next PROM in the chain.", 7 VPP (power) "Programming Voltage.  Do not leave Vpp floating!", 8 VCC (power) "Positive Supply."

## XC17256EPD8I
designator U?
XC1700E Series, One-Time Programmable Configuration 5V PROM, 8-Pin PDIP, 256-Kilobit Density, Industrial Grade; PackageDocument: rev1.1, Apr-2001; Published: 17-Dec-2003; DatasheetDocument: ver3.1, Jul-2000; PackageReference: PD8; Publisher: Altium Limited; Code_JEDEC: MS-001-BA
footprint PD8 (8-Pin Plastic DIP (PD8))
pins: 1 DATA (io) "Data Output.", 2 CLK (in) "Clock input for internal address counter.", 3 OE/~{RESET} (in) "Output Enable/Reset.", 4 ~{CE} (in) "Chip Enable Input.", 5 GND (power) "Ground.", 6 ~{CEO} (out) "Chip Enable Output, connects to the CE input of the next PROM in the chain.", 7 VPP (power) "Programming Voltage.  Do not leave Vpp floating!", 8 VCC (power) "Positive Supply."

## XC17256EVO8C
designator U?
XC1700E Series, One-Time Programmable Configuration 5V PROM, 8-Pin TSOP, 256-Kilobit Density, Commercial Grade; PackageDocument: ver1.1, Apr-2001; Published: 17-Dec-2003; DatasheetDocument: ver3.1, Jul-2000; PackageReference: VO8; Publisher: Altium Limited
footprint VO8 (8-Pin Thin Small-Outline Package (VO8))
pins: 1 DATA (io) "Data Output.", 2 CLK (in) "Clock input for internal address counter.", 3 OE/~{RESET} (in) "Output Enable/Reset.", 4 ~{CE} (in) "Chip Enable Input.", 5 GND (power) "Ground.", 6 ~{CEO} (out) "Chip Enable Output, connects to the CE input of the next PROM in the chain.", 7 VPP (power) "Programming Voltage.  Do not leave Vpp floating!", 8 VCC (power) "Positive Supply."

## XC17256EVO8I
designator U?
XC1700E Series, One-Time Programmable Configuration 5V PROM, 8-Pin TSOP, 256-Kilobit Density, Industrial Grade; PackageDocument: ver1.1, Apr-2001; Published: 17-Dec-2003; DatasheetDocument: ver3.1, Jul-2000; PackageReference: VO8; Publisher: Altium Limited
footprint VO8 (8-Pin Thin Small-Outline Package (VO8))
pins: 1 DATA (io) "Data Output.", 2 CLK (in) "Clock input for internal address counter.", 3 OE/~{RESET} (in) "Output Enable/Reset.", 4 ~{CE} (in) "Chip Enable Input.", 5 GND (power) "Ground.", 6 ~{CEO} (out) "Chip Enable Output, connects to the CE input of the next PROM in the chain.", 7 VPP (power) "Programming Voltage.  Do not leave Vpp floating!", 8 VCC (power) "Positive Supply."